# EAGLE library part DIR9001 (library AMP2-ICs)
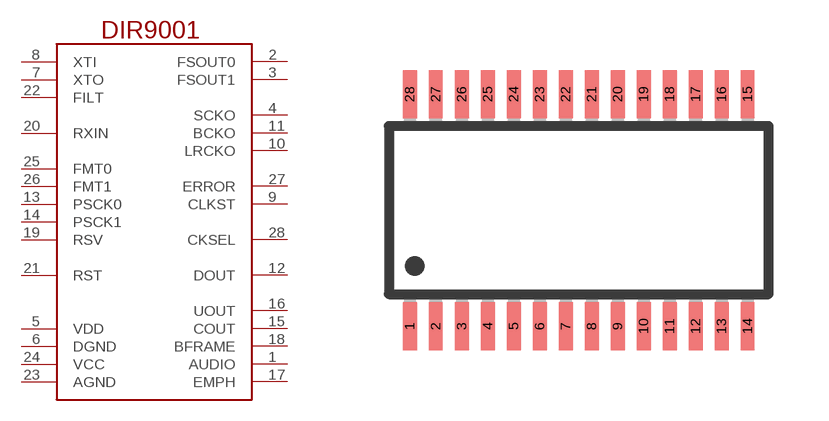
[diagram p68: symbol with the pads of TSSOP28; footprint TSSOP28]

Designator prefix -

## DIR9001  [TSSOP28]
1  AUDIO
2  FSOUT0
3  FSOUT1
4  SCKO
5  VDD
6  DGND
7  XTO
8  XTI
9  CLKST
10  LRCKO
11  BCKO
12  DOUT
13  PSCK0
14  PSCK1
15  COUT
16  UOUT
17  EMPH
18  BFRAME
19  RSV
20  RXIN
21  RST
22  FILT
23  AGND
24  VCC
25  FMT0
26  FMT1
27  ERROR
28  CKSEL

## Footprint TSSOP28 (pad centres in mm)
smd 0.35 x 1.2: 1 -4.225,-2.9; 2 -3.575,-2.9; 3 -2.925,-2.9; 4 -2.275,-2.9; 5 -1.625,-2.9; 6 -0.975,-2.9; 7 -0.325,-2.9; 8 0.325,-2.9; 9 0.975,-2.9; 10 1.625,-2.9; 11 2.275,-2.9; 12 2.925,-2.9; 13 3.575,-2.9; 14 4.225,-2.9; 15 4.225,2.9; 16 3.575,2.9; 17 2.925,2.9; 18 2.275,2.9; 19 1.625,2.9; 20 0.975,2.9; 21 0.325,2.9; 22 -0.325,2.9; 23 -0.975,2.9; 24 -1.625,2.9; 25 -2.275,2.9; 26 -2.925,2.9; 27 -3.575,2.9; 28 -4.225,2.9